# Altium schematic symbol library 1N4148.SchLib: 1 symbol
Pins are listed as number, name and electrical type; pins without a type are passive.

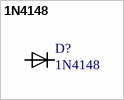
[diagram p0: symbol 1N4148]

## 1N4148
designator D?
SnapEDA_Link: https://www.snapeda.com/parts/1N4148/Nexperia%20USA%20Inc./view-part/4413009/?ref=snap; Value: *
footprint *DO35-7_1N4148(Primary)
pins: A, C